# Altium footprint library LGA-14.PcbLib: 1 footprints
Each footprint in its own frame and in the unit in brackets; x right, y up, seen from the top. Pads: shape width x height; smd on the part's side, far side on the other; paste and mask are expansions set on the pad; w line width, h text height; cw(c..) or ccw(c..) is an arc to the next point about the centre after c.
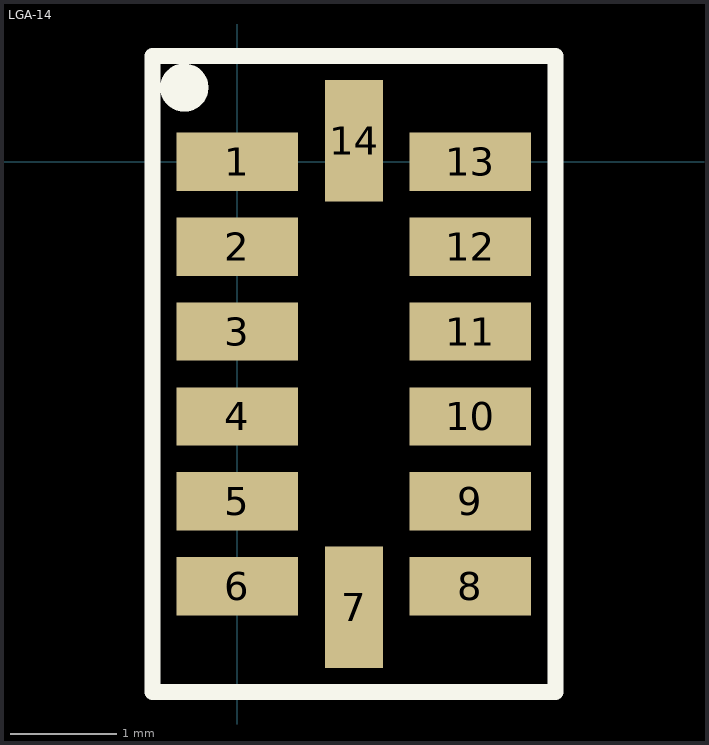
[diagram p0: the footprint, top view; thin cyan lines are the x and y axes]

## LGA-14 [mm]
pads (14):
  rect 1.145x0.55 smd: 1(0,0) 2(0,-0.8) 3(0,-1.6) 4(0,-2.4) 5(0,-3.2) 6(0,-4) 8(2.195,-4) 9(2.195,-3.2) 10(2.195,-2.4) 11(2.195,-1.6) 12(2.195,-0.8) 13(2.195,0)
  rect 0.55x1.145 smd: 7(1.1,-4.2) 14(1.1,0.2)
Top Overlay:
  circle w0.254: c-0.5,0.7 r0.1
  lines w0.15: -0.8,-5 3,-5 3,1 -0.8,1 -0.8,-5
3D body: height 1.03, standoff -0.4, extent -0.4,-4.5 2.6,0.5